# Altium schematic symbol library SCH - PASSIVES - INDUCTOR 50475C.SCHLIB: 1 symbol
Pins are listed as number, name and electrical type; pins without a type are passive.

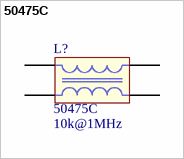
[diagram p0: symbol 50475C]

## 50475C
designator L?  value 10k@1MHz
Inductor, CMC, 10k@1MHz, 0.4A; Manufacturer: Murata; Category: inductors; Manufacturer Part Number: 50475C; Pins: 4; Supplier 1: Mouser; Supplier Part Number 1: 580-50475C; Current: 0.4A; Mounting Style: SMT
footprint IND_MPS5000 (CM Filter, Murata PS, Body 7.0x5.9 mm)
pins: 1 IN1, 2 IN2, 3 OUT2, 4 OUT1